# EAGLE library part BLT-HC05 (library quadrotor)
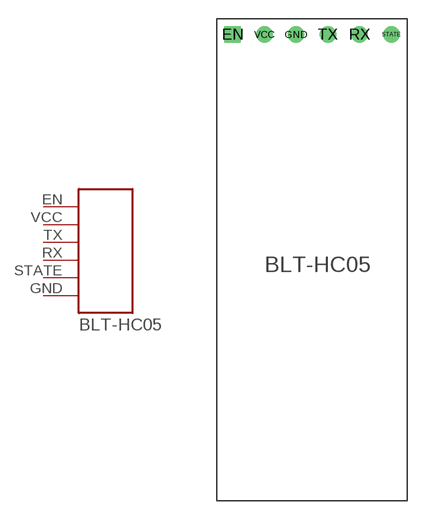
[diagram p0: symbol with the pads of BLT-HC05; footprint BLT-HC05]

Designator prefix -

## BLT-HC05  [BLT-HC05]
EN  EN
GND  GND
RX  RX
STATE  STATE
TX  TX
VCC  VCC

## Footprint BLT-HC05 (pad centres in mm)
drill 0.8 square: EN 0,0
drill 0.8: GND 5.08,0; RX 10.16,0; STATE 12.7,0; TX 7.62,0; VCC 2.54,0